# Altium schematic symbol library PDM Mk21 - Mini.SchLib: 5 symbols
Pins are listed as number, name and electrical type; pins without a type are passive.

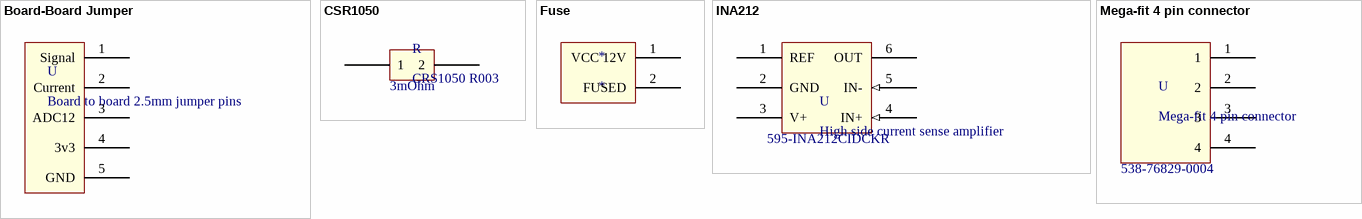
[diagram p0: symbols Board-Board Jumper to Mega-fit 4 pin connector]

## Board-Board Jumper
designator U, comment Board to board 2.5mm jumper pins
footprint Board-Board Jumper (Board to board 2.54mm header pins)
pins: 1 Signal, 2 Current, 3 ADC12, 4 3v3, 5 GND

## CSR1050
designator R, comment CRS1050 R003  value 3mOhm
Current Shunt Resistor; Maunfacturer: Arcol; Supplier: Mouser; Supplier Part no.: 284-CRS1050R003J100T; Manufacturer part no.: CRS1050 R003
footprint CRS1050 (3mOhm current shunt resistor footprint)
pins: 1, 2

## Fuse
designator *
footprint Fuse (Surface mount pads for standard self-resetting fuse)
pins: 1 VCC 12V, 2 FUSED

## INA212
designator U, comment High side current sense amplifier  Supplier Part Number: 595-INA212CIDCKR
Manufacturer: Texas Instruments; Manufacturer part no.: INA212CIDCKR; Supplier: Mouser
footprint INA212 (Current Amplifier)
pins: 1 REF, 2 GND, 3 V+, 4 IN+ (in), 5 IN- (in), 6 OUT

## Mega-fit 4 pin connector
designator U  Supplier Part No.: 538-76829-0004
MOLEX mega-fit 4 pin connector; Manufacturer Part No.: 76829-0004; Manufacturer: MOLEX; Supplier: Mouser
footprint Mega-fit 4 pin connector (MOLEX mega-fit 4 pin connector)
pins: 1, 2, 3, 4